# EAGLE library part LM2676 (library Webmaster442)
LM2676 SIMPLE SWITCHER High Efficiency 3A Step-Down Voltage Regulator
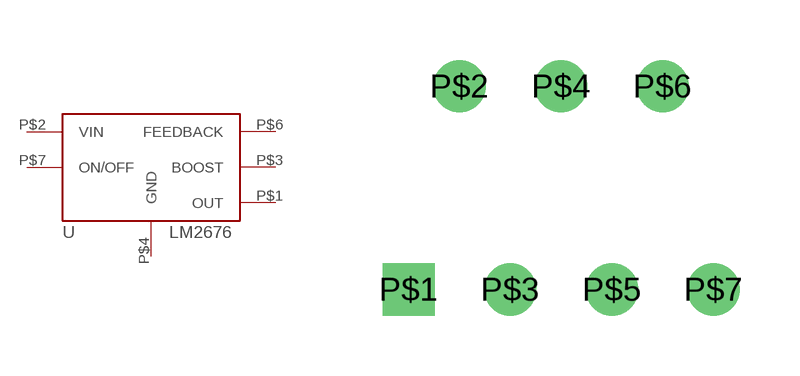
[diagram p15: symbol with the pads of LM2676; footprint LM2676]

Designator prefix -

## LM2676  [LM2676]
P$1  OUT
P$2  VIN
P$3  BOOST
P$4  GND
P$6  FEEDBACK
P$7  ON/OFF

## Footprint LM2676 (pad centres in mm)
drill 0.8 square: P$1 -7.62,-5.08
drill 0.8: P$2 -6.35,0; P$3 -5.08,-5.08; P$4 -3.81,0; P$5 -2.54,-5.08; P$6 -1.27,0; P$7 0,-5.08